# Altium footprint library AP33771CFBZ13FA01.PcbLib: 1 footprints
Each footprint in its own frame and in the unit in brackets; x right, y up, seen from the top. Pads: shape width x height; smd on the part's side, far side on the other; paste and mask are expansions set on the pad; w line width, h text height; cw(c..) or ccw(c..) is an arc to the next point about the centre after c.
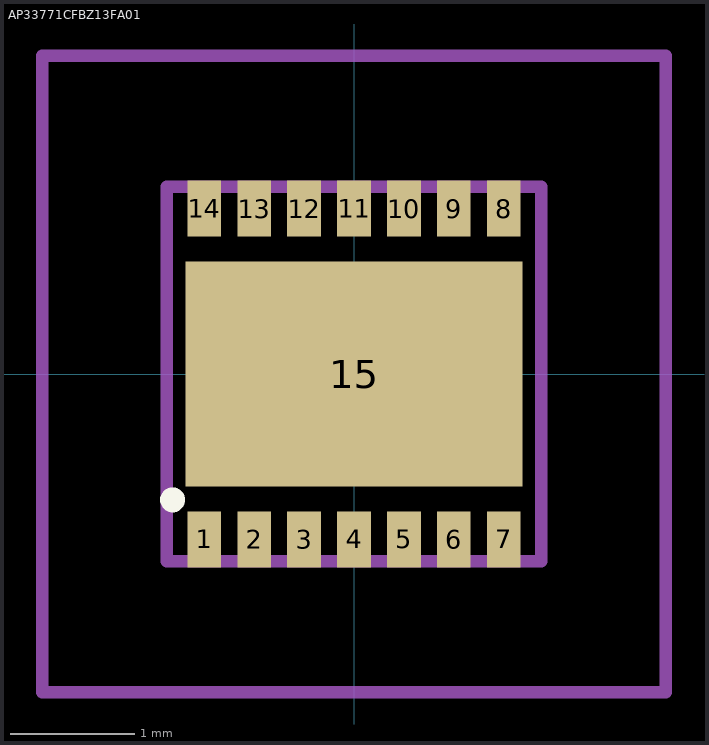
[diagram p0: the footprint, top view; thin cyan lines are the x and y axes]

## AP33771CFBZ13FA01 [mm]
pads (15):
  rect 0.27x0.45 smd: 1(-1.2,-1.325) 2(-0.8,-1.325) 3(-0.4,-1.325) 4(0,-1.325) 5(0.4,-1.325) 6(0.8,-1.325) 7(1.2,-1.325) 8(1.2,1.325) 9(0.8,1.325) 10(0.4,1.325) 11(0,1.325) 12(-0.4,1.325) 13(-0.8,1.325) 14(-1.2,1.325)
  rect 2.7x1.8 smd: 15(0,0)
Top Overlay:
  lines w0.1: -1.504,-1.009 ccw(c-1.454,-1.009) -1.404,-1.009 ccw(c-1.454,-1.009) -1.504,-1.009
Mechanical 15:
  lines w0.1: -1.5,-1.5 1.5,-1.5 1.5,1.5 -1.5,1.5 -1.5,-1.5
Mechanical 20:
  lines w0.1: -2.5,-2.55 2.5,-2.55 2.5,2.55 -2.5,2.55 -2.5,-2.55
3D body "AP33771CFBZ-13-FA01.stp": height 0.75, standoff 0, extent -1.506,-1.506 1.494,1.494